# Altium footprint library WB-Connector.PcbLib: 1 footprints
Each footprint in its own frame and in the unit in brackets; x right, y up, seen from the top. Pads: shape width x height; smd on the part's side, far side on the other; paste and mask are expansions set on the pad; w line width, h text height; cw(c..) or ccw(c..) is an arc to the next point about the centre after c.
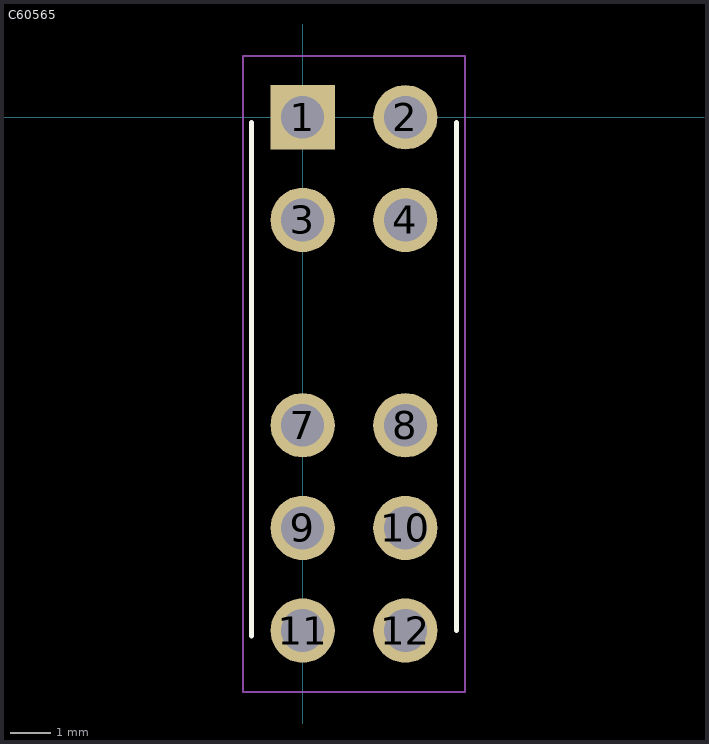
[diagram p0: the footprint, top view; thin cyan lines are the x and y axes]

## C60565 [mm] "Pin Header 12 2 right-angle,90degrees 2.54mm P=2.54mm Pin Header & Female Header RoHS"
pads (10):
  rect 1.59x1.59 hole 1.06: 1(0,0)
  round 1.59 hole 1.06: 2(2.54,0) 3(0,-2.54) 4(2.54,-2.54) 7(0,-7.62) 8(2.54,-7.62) 9(0,-10.16) 10(2.54,-10.16) 11(0,-12.7) 12(2.54,-12.7)
Top Overlay:
  lines w0.127: -1.27,-12.827 -1.27,-0.127 ; 3.81,-12.7 3.81,-0.127
Mechanical 15:
  lines w0.05: -1.48,-14.224 4.02,-14.224 4.02,1.52 -1.48,1.52 -1.48,-14.224